# Altium integrated library OPTCPLR TLP521-1ch.IntLib: 1 symbol
Pins are listed as number, name and electrical type; pins without a type are passive.

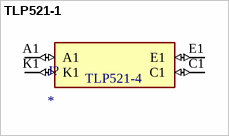
[diagram p0: symbol TLP521-1]

## TLP521-1
designator J?
Optoisolator Transistor Output 5300Vrms 1 Channel 4-DIP; MF: Isocom; MP: TLP521-1; SnapEDA_Link: https://www.snapeda.com/parts/TLP521-1/Isocom/view-part/?ref=snap; Package: DIP-4 Isocom Components; Value: *; Check_prices: https://www.snapeda.com/parts/TLP521-1/Isocom/view-part/?ref=eda
footprint TLP521-2_FOOT
pins: A1 (io), C1 (io), E1 (io), K1 (io)
text: TLP521-4